# Altium footprint library QFN40P300X300X80_HS-15N.PcbLib: 1 footprints
Each footprint in its own frame and in the unit in brackets; x right, y up, seen from the top. Pads: shape width x height; smd on the part's side, far side on the other; paste and mask are expansions set on the pad; w line width, h text height; cw(c..) or ccw(c..) is an arc to the next point about the centre after c.
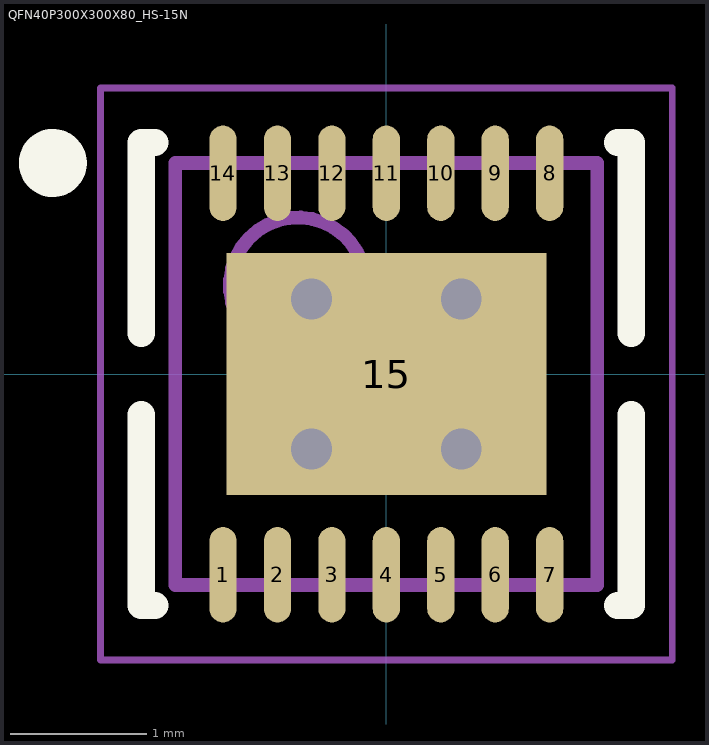
[diagram p0: the footprint, top view; thin cyan lines are the x and y axes]

## QFN40P300X300X80_HS-15N [mm] "QFN, 14-Leads, Body 3,00x3,00mm, Pitch 0,40mm, Thermal Pad 2,35x1,78mm, IPC Medium Density"
height 0.8
pads (15):
  oval 0.2x0.7 smd mask+0.05: 1(-1.2,-1.475) 2(-0.8,-1.475) 3(-0.4,-1.475) 4(0,-1.475) 5(0.4,-1.475) 6(0.8,-1.475) 7(1.2,-1.475) 8(1.2,1.475) 9(0.8,1.475) 10(0.4,1.475) 11(0,1.475) 12(-0.4,1.475) 13(-0.8,1.475) 14(-1.2,1.475)
  rect 2.35x1.78 smd mask+0.05: 15(0,0)
via -0.55,0.55 diameter 0.6 hole 0.3
via 0.55,0.55 diameter 0.6 hole 0.3
via -0.55,-0.55 diameter 0.6 hole 0.3
via 0.55,-0.55 diameter 0.6 hole 0.3
Top Overlay:
  circle w0.25: c-2.45,1.55 r0.125
  lines w0.2: -1.8,-0.3 -1.8,-1.7 -1.7,-1.7 ; -1.8,0.3 -1.8,1.7 -1.7,1.7 ; 1.7,-1.7 1.8,-1.7 1.8,-0.3 ; 1.7,1.7 1.8,1.7 1.8,0.3
Top Assembly:
  circle w0.1: c-0.65,0.65 r0.5
  lines w0.1: -1.55,-1.55 -1.55,1.55 1.55,1.55 1.55,-1.55 -1.55,-1.55
Top Courtyard:
  lines w0.05: -2.1,-2.1 -2.1,2.1 2.1,2.1 2.1,-2.1 -2.1,-2.1
  lines w0.1: -0.5,0 0.5,0 ; 0,-0.5 0,0.5
3D body "QFN40P300X300X80_HS-15N.step": height 0.8, standoff 0, extent -1.55,-1.6 1.55,1.6